# Altium schematic symbol library bluetooth1.SchLib: 1 symbol
Pins are listed as number, name and electrical type; pins without a type are passive.

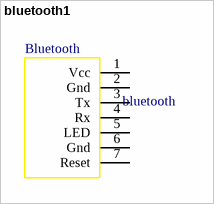
[diagram p0: symbol bluetooth1]

## bluetooth1
designator bluetooth  (value not drawn)
pins: 1 Vcc, 2 Gnd, 3 Tx, 4 Rx, 5 LED, 6 Gnd, 7 Reset
text: Bluetooth